# Altium integrated library HC-05.IntLib: 1 symbol
Pins are listed as number, name and electrical type; pins without a type are passive.

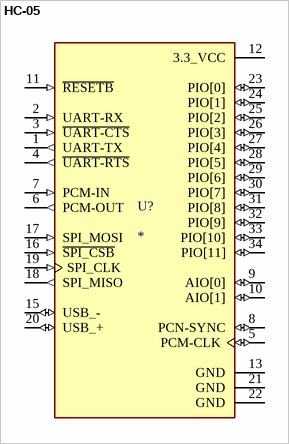
[diagram p0: symbol HC-05]

## HC-05
designator U?
Bluetooth to Serial Port Module; MF: Bel Power solution; MP: HC-05; Value: *; Availability: Unavailable; Price: None; SnapEDA_Link: https://www.snapeda.com/parts/HC-05/Bel%20Power%20Solutions/view-part/106410/?ref=snap; Check_prices: https://www.snapeda.com/parts/HC-05/Bel%20Power%20Solutions/view-part/106410/?ref=eda; Package: SOIC-14
footprint XCVR_HC-05
pins: 1 UART-TX (out), 2 UART-RX (in), 3 ~{UART-CTS} (in), 4 ~{UART-RTS} (out), 5 PCM-CLK (io), 6 PCM-OUT (out), 7 PCM-IN (in), 8 PCN-SYNC (io), 9 AIO[0] (io), 10 AIO[1] (io), 11 ~{RESETB} (in), 12 3.3_VCC (power), 13 GND (power), 15 USB_- (io), 16 ~{SPI_CSB} (in), 17 SPI_MOSI (in), 18 SPI_MISO (out), 19 SPI_CLK (in), 20 USB_+ (io), 21 GND (power), 22 GND (power), 23 PIO[0] (io), 24 PIO[1] (io), 25 PIO[2] (io), 26 PIO[3] (io), 27 PIO[4] (io), 28 PIO[5] (io), 29 PIO[6] (io), 30 PIO[7] (io), 31 PIO[8] (io), 32 PIO[9] (io), 33 PIO[10] (io), 34 PIO[11] (io)